# Altium integrated library 7-188275-8.IntLib: 1 symbol
Pins are listed as number, name and electrical type; pins without a type are passive.

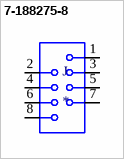
[diagram p0: symbol 7-188275-8]

## 7-188275-8
designator J
BOARD-TO-BOARD CONNECTOR, VERTICAL, MICRO-MATCH SERIES, SURFACE MOUNT, RECEPTACLE, 8, 1.27 MM; MP: 7-188275-8; MF: TE Connectivity; Availability: Unavailable; Package: None; EU_RoHS_Compliance: Compliant; SnapEDA_Link: https://www.snapeda.com/parts/7-188275-8/TE%20Connectivity%20AMP%20Connectors/view-part/558607/?ref=snap; Price: None; TE_purchase_URL: https://www.te.com/usa-en/product-7-188275-8.html?te_bu=Cor&te_type=disp&te_campaign=seda_glo_cor-seda-global-disp-prtnr-fy19-seda-model-bom-cta_sma-317_1&elqCampaignId=32493; Value: *
footprint TE_7-188275-8
pins: 1, 2, 3, 4, 5, 6, 7, 8